# Altium schematic symbol library C&K V80212.Schlib: 1 symbol
Pins are listed as number, name and electrical type; pins without a type are passive.

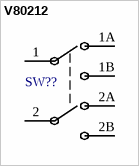
[diagram p0: symbol V80212]

## V80212
designator SW??
Power & Line Voltage Select Slide Switch; Manufacturer: C&K; Value: V80212MS02Q; TYPE: Switches; ComponentLink1Description: Datasheet Link; ComponentLink1URL: https://www.ckswitches.com/media/1427/v.pdf; Technology: Power Line; Mount Type: TH; Part Number: V80212MS02Q; RoHS: Y; Supplier 1: Mouser; Supplier Part Number 1: 611-V80212MS02Q
footprint C&K V80212MS02Q (SWITCH PC mount, top actuated)
pins: 1, 1A, 1B, 2, 2A, 2B